# EAGLE library part MCP41XXX (library Hoektronics)
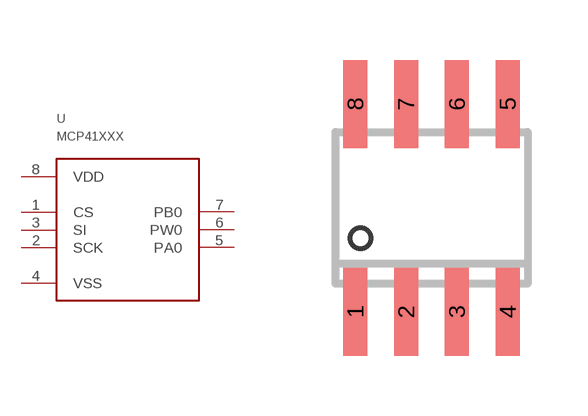
[diagram p15: symbol with the pads of SO-08; footprint SO-08]

Designator prefix -

## MCP41XXX  [SO-08]
1  CS
2  SCK
3  SI
4  VSS
5  PA0
6  PW0
7  PB0
8  VDD

## Footprint SO-08 (pad centres in mm)
Small Outline Narrow Plastic Gull Wing 150-mil body, package type SN
smd 0.6 x 2.2: 1 -1.905,-2.6; 2 -0.635,-2.6; 3 0.635,-2.6; 4 1.905,-2.6; 5 1.905,2.6; 6 0.635,2.6; 7 -0.635,2.6; 8 -1.905,2.6